# Altium footprint library LED-4SMD.PcbLib: 1 footprints
Each footprint in its own frame and in the unit in brackets; x right, y up, seen from the top. Pads: shape width x height; smd on the part's side, far side on the other; paste and mask are expansions set on the pad; w line width, h text height; cw(c..) or ccw(c..) is an arc to the next point about the centre after c.
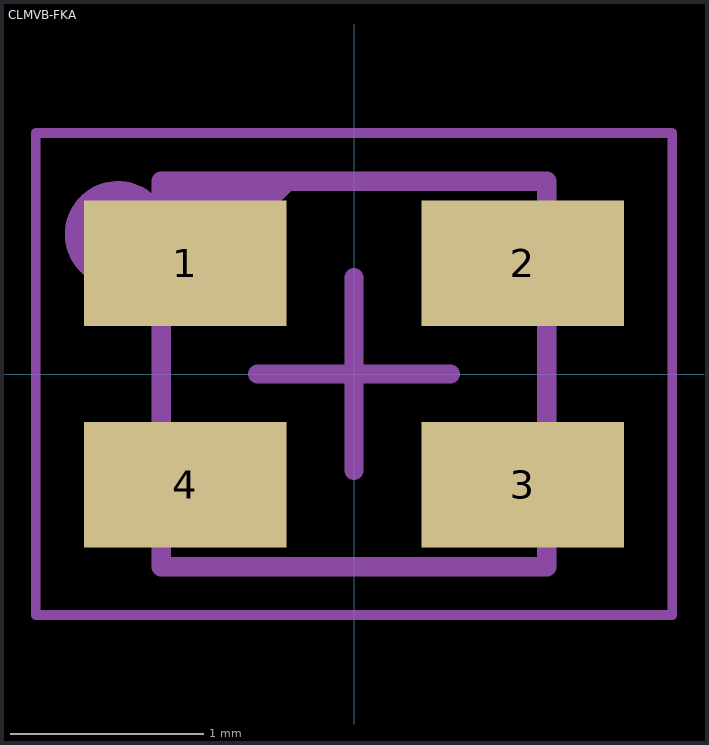
[diagram p0: the footprint, top view; thin cyan lines are the x and y axes]

## CLMVB-FKA [mm] "LED RGB DIFFUSED 4SMD"
height 1
pads (4):
  rect 1.05x0.65 smd: 1(-0.875,0.575) 2(0.875,0.575) 3(0.875,-0.575) 4(-0.875,-0.575)
Mechanical 6:
  text "'.Designator'" at -1.1,-0.3 h0.6
Mechanical 8:
  circle w0.3: c-1.225,0.725 r0.125
  lines w0.05: -1.65,-1.25 1.65,-1.25 1.65,1.25 -1.65,1.25 -1.65,-1.25
Mechanical 13:
  region: -1,1 -0.275,1 -1,0.275
  lines w0.1: -1,-1 -1,1 1,1 1,-1 -1,-1
Mechanical 15:
  lines w0.05: -1.65,-1.25 -1.65,1.25 1.65,1.25 1.65,-1.25 -1.65,-1.25
  lines w0.1: -0.5,0 0.5,0 ; 0,-0.5 0,0.5
3D body: height 1, standoff 0, extent -1,-1 1,1